# Altium footprint library Devices.PcbLib: 190 footprints (part 12 of 12)
Each footprint in its own frame and in the unit in brackets; x right, y up, seen from the top. Pads: shape width x height; smd on the part's side, far side on the other; paste and mask are expansions set on the pad; w line width, h text height; cw(c..) or ccw(c..) is an arc to the next point about the centre after c.
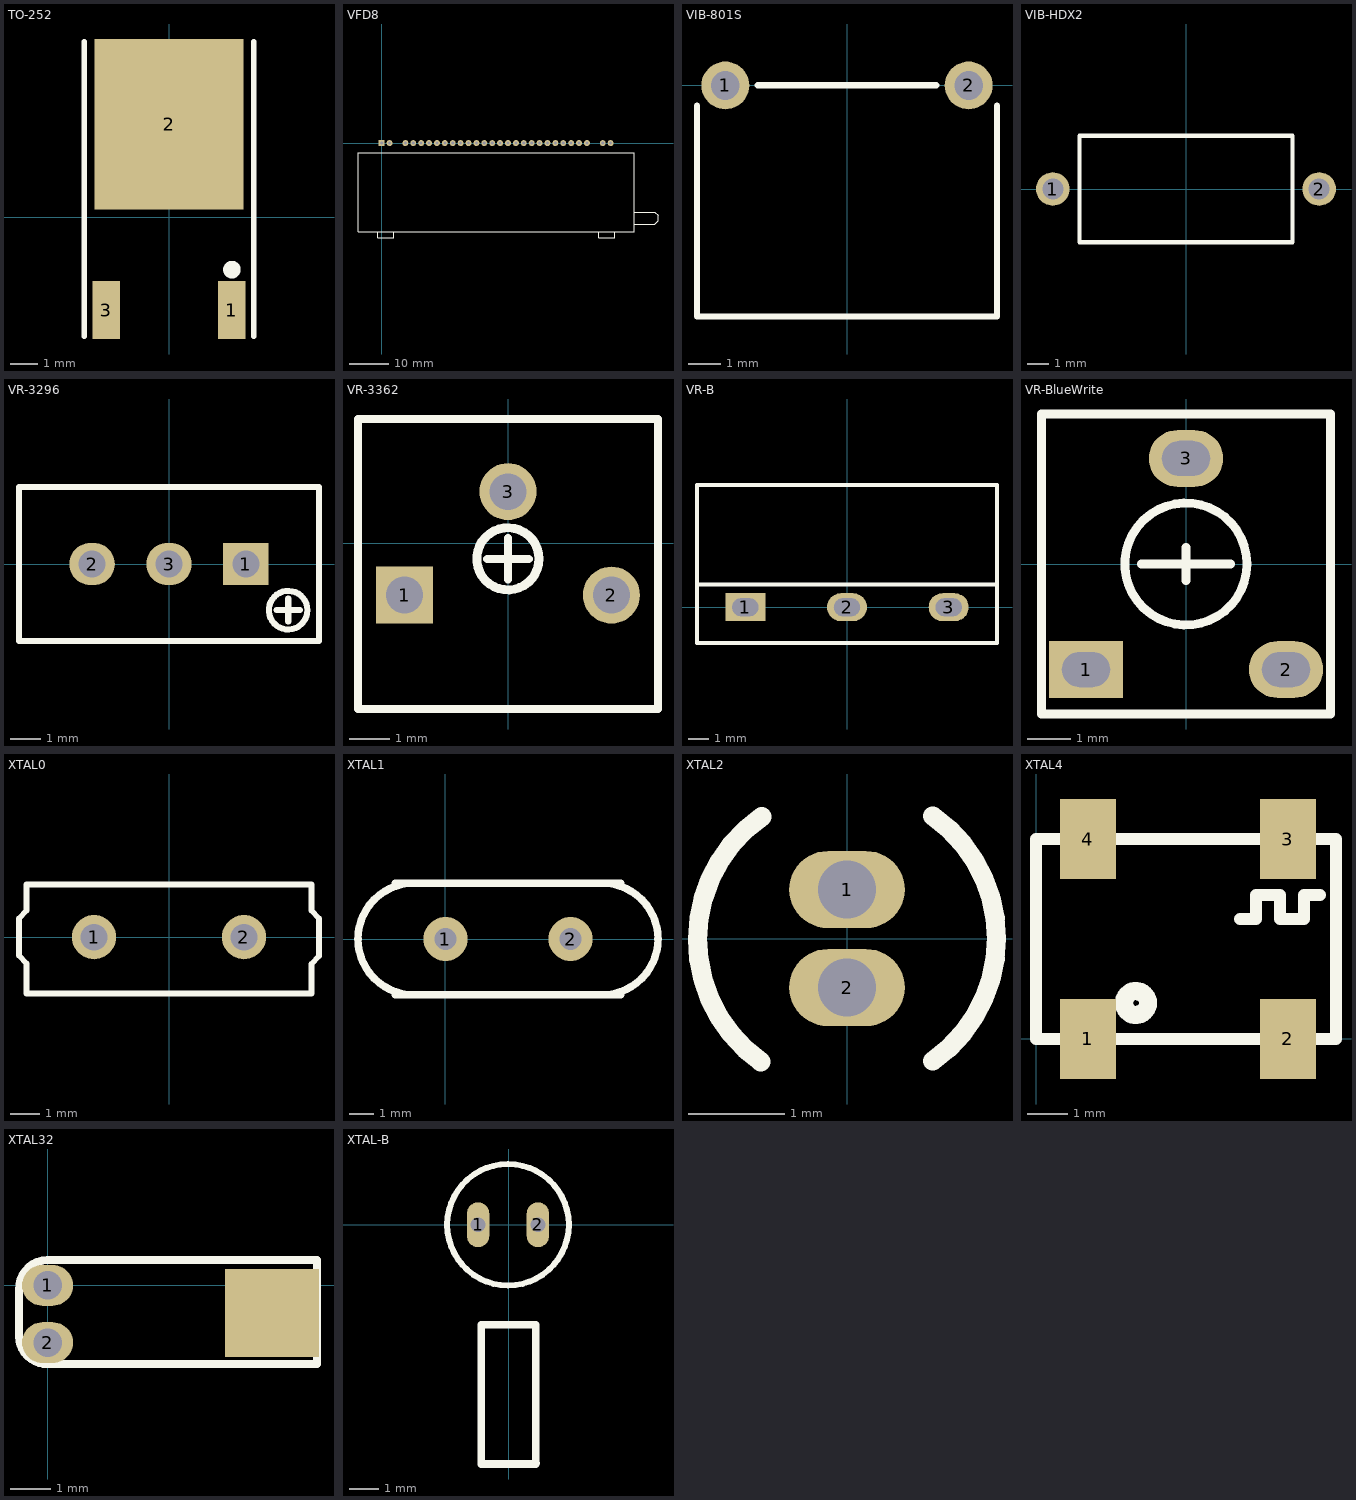
[diagram p11: the footprints below, top view; thin cyan lines are the x and y axes]

## TO-252 [mm] "D-PAK/TO-252-AA; 3 Leads (1 Cropped); Body 10.1 (inc. leads) x 6.6 mm (LxW max)"
height 2.4
pads (3):
  rect 1x2.1 smd: 1(2.285,-3.375) 3(-2.285,-3.375)
  rect 5.4x6.2 smd: 2(0,3.375)
Top Overlay:
  circle w0.381: c2.286,-1.905 r0.127
  lines w0.2: -3.085,-4.325 -3.085,6.375 ; 3.085,-4.325 3.085,6.375

## VFD8 [mm]
height 7.8
pads (28):
  rect 1.5x1.5 hole 0.8: 1(0,0)
  round 1.5 hole 0.8: 2(2,0) 4(6,0) 5(8,0) 6(10,0) 7(12,0) 8(14,0) 9(16,0) 10(18,0) 11(20,0) 12(22,0) 13(24,0) 14(26,0) 15(28,0) 16(30,0) 17(32,0) 18(34,0) 19(36,0) 20(38,0) 21(40,0) 22(42,0) 23(44,0) 24(46,0) 25(48,0) 26(50,0) 27(52,0) 29(56,0) 30(58,0)
Top Overlay:
  lines w0.2: -1,-22.5 -1,-24 3,-24 3,-22.5 ; 55,-22.5 55,-24 59,-24 59,-22.5 ; 64,-20.5 69.2,-20.5 70,-19.7 70,-18.3 69.2,-17.5 64,-17.5 ; -6,-22.5 64,-22.5 64,-2.5 -6,-2.5 -6,-22.5

## VIB-801S [mm]
pads (2):
  round 1.5 hole 0.9: 1(-3.81,0) 2(3.81,0)
Top Overlay:
  lines w0.2: -4.699,-0.635 -4.699,-7.239 4.699,-7.239 4.699,-0.635 ; -2.794,0 2.794,0

## VIB-HDX2 [mm]
pads (2):
  round 1.6 hole 1: 1(-6.35,0) 2(6.35,0)
Top Overlay:
  lines w0.2: -5.08,-2.54 -5.08,2.54 5.08,2.54 5.08,-2.54 -5.08,-2.54

## VR-3296 [mm] "Potentiometer; 3 Leads"
pads (3):
  rect 1.5x1.4 hole 0.9: 1(2.54,0)
  oval 1.5x1.4 hole 0.9: 2(-2.54,0) 3(0,0)
Top Overlay:
  circle w0.2: c3.935,-1.524 r0.637
  lines w0.2: 3.556,-1.524 4.318,-1.524 ; 3.937,-1.905 3.937,-1.143 ; -4.953,-2.54 4.953,-2.54 4.953,2.54 -4.953,2.54 -4.953,-2.54

## VR-3362 [mm] "Feed-Through Capacitor; 3 Leads"
pads (3):
  rect 1.4x1.4 hole 0.9: 1(-2.54,-1.27)
  round 1.4 hole 0.9: 2(2.54,-1.27) 3(0,1.27)
Top Overlay:
  circle w0.22: c-0.002,-0.381 r0.764
  lines w0.2: -0.508,-0.381 0.508,-0.381 ; 0,-0.889 0,0.127 ; -3.683,-4.064 3.683,-4.064 3.683,3.048 -3.683,3.048 -3.683,-4.064

## VR-B [mm] "Feed-Through Capacitor; 3 Leads"
pads (3):
  rect 2x1.4 hole 0.9 slot 1.3 at 0 deg: 1(-5.08,0)
  oval 2x1.4 hole 0.9 slot 1.3 at 0 deg: 2(0,0) 3(5.08,0)
Top Overlay:
  lines w0.2: -7.493,1.143 7.493,1.143 ; -7.493,-1.778 7.493,-1.778 7.493,6.096 -7.493,6.096 -7.493,-1.778

## VR-BlueWrite [mm]
pads (3):
  rect 1.7x1.3 hole 0.8 slot 1.1 at 0 deg: 1(-2.286,-2.413)
  oval 1.7x1.3 hole 0.8 slot 1.1 at 0 deg: 2(2.286,-2.413) 3(0,2.413)
Top Overlay:
  circle w0.2: c-0.002,0 r1.395
  lines w0.2: -1.016,0 1.016,0 ; 0,-0.381 0,0.381 ; -3.302,-3.429 3.302,-3.429 3.302,3.429 -3.302,3.429 -3.302,-3.429

## XTAL0 [mm]
height 3.35
pads (2):
  round 1.5 hole 0.9: 1(-2.54,0) 2(2.54,0)
Top Overlay:
  lines w0.2: -5.08,-0.626 -5.08,0.626 -4.826,0.898 -4.826,1.778 4.826,1.778 4.826,0.898 5.08,0.626 5.08,-0.635 4.826,-0.908 4.826,-1.905 -4.826,-1.905 -4.826,-0.898 -5.08,-0.626

## XTAL1 [mm]
pads (2):
  round 1.8 hole 0.9: 1(0,0) 2(5.08,0)
Top Overlay:
  lines w0.305: -2.033,-2.259 7.113,-2.259 ; -2.033,2.259 7.113,2.259 ; -1.524,-2.259 cw(c-1.283,0) -1.524,2.259 ; 6.604,-2.259 ccw(c6.363,0) 6.604,2.259

## XTAL2 [mm] "Crystal, Thru-Hole; 2 Leads; Body 3.1 x 8.2 mm (Dia.xH)"
height 8.2
pads (2):
  oval 1.2x0.8 hole 0.6: 1(0,0.508) 2(0,-0.508)
Top Overlay:
  lines w0.2: -0.894,-1.276 cw(c0,-0.01) -0.884,1.263 ; 0.889,-1.27 ccw(c0,0) 0.889,1.27

## XTAL4 [mm]
pads (4):
  rect 1.4x2 smd: 1(1.3,0) 2(6.3,0) 3(6.3,5) 4(1.3,5)
Top Overlay:
  circle w0.254: c2.5,0.9 r0.2
  circle w0.254: c2.5,0.9 r0.4
  lines w0.305: 5.1,3 5.5,3 5.5,3.6 6.1,3.6 6.1,3 6.6,3 6.7,3 6.7,3.6 7.1,3.6 ; 0,0 7.5,0 7.5,5 0,5 0,0

## XTAL32 [mil]
pads (3):
  oval 50x40 hole 28: 1(0,0) 2(0,-56)
  rect 92.13x86 smd: ""(220,-27)
Top Overlay:
  lines w8: -28,-50 ccw(c-0.5,-49.5) 0,-77 264,-77 264,25 0,25 ccw(c0.5,-3.5) -28,-4 -28,-50

## XTAL-B [mm]
pads (2):
  oval 0.75x1.5 hole 0.5: 1(-1.024,0.001) 2(0.976,0.001)
Top Overlay:
  circle w0.2: c-0.024,0.001 r2.032
  lines w0.254: 0.926,-7.974 0.901,-7.999 ; 0.901,-7.999 0.901,-3.349 -0.924,-3.349 -0.924,-7.999 0.901,-7.999